# Altium footprint library PcbLib1.PcbLib: 36 footprints (part 1 of 3)
Each footprint in its own frame and in the unit in brackets; x right, y up, seen from the top. Pads: shape width x height; smd on the part's side, far side on the other; paste and mask are expansions set on the pad; w line width, h text height; cw(c..) or ccw(c..) is an arc to the next point about the centre after c.
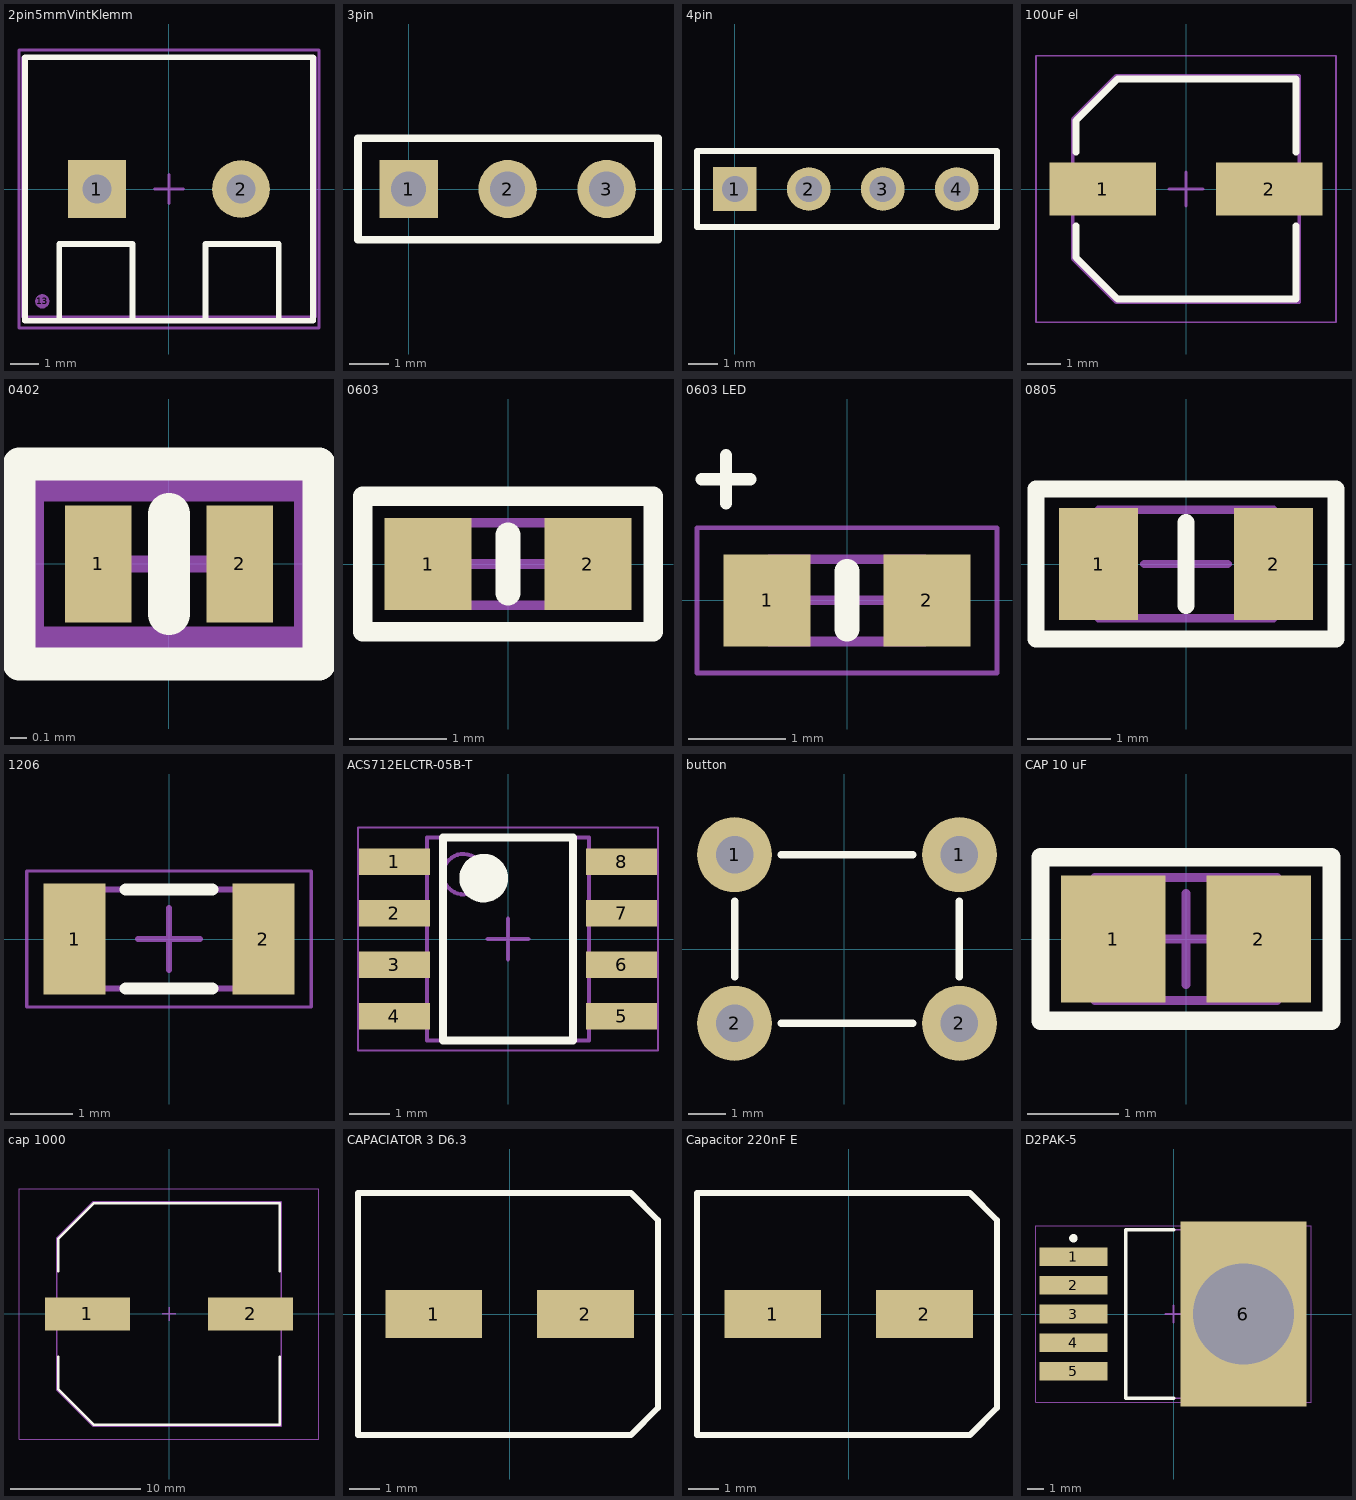
[diagram p0: the footprints below, top view; thin cyan lines are the x and y axes]

## 2pin5mmVintKlemm [mm]
pads (3):
  rect 2x2 hole 1: 1(-2.5,0)
  round 2 hole 1: 2(2.5,0)
  round 0.5 on Mech1: 13(-4.4,-3.9)
Top Overlay:
  lines w0.2: -3.81,-4.572 -3.81,-1.905 -1.27,-1.905 -1.27,-4.445 ; 1.27,-4.572 1.27,-1.905 3.81,-1.905 3.81,-4.445 ; -5,-4.572 5,-4.572 5,4.572 -5,4.572 -5,-4.572
Mechanical 1:
  lines w0.1: -5.08,-4.445 -5.08,4.555 5.08,4.555 5.08,-4.445 -5.08,-4.445
Mechanical 15:
  lines w0.1: -0.5,0 0.5,0 ; 0,-0.5 0,0.5 ; -5.207,-4.826 5.207,-4.826 5.207,4.826 -5.207,4.826 -5.207,-4.826
3D body "300-02.STEP": height 12.5, standoff -4, extent -5.08,-4.445 5.08,4.555

## 3pin [mm]
pads (3):
  rect 1.5x1.5 hole 0.9: 1(0,0)
  round 1.5 hole 0.9: 2(2.54,0) 3(5.08,0)
Top Overlay:
  lines w0.2: -1.3,-1.3 6.4,-1.3 6.4,1.3 -1.3,1.3 -1.3,-1.3
3D body "User Library-PLS-1.STEP": height 8.44, standoff -3, extent -1.27,-1.27 1.27,1.27
3D body "User Library-PLS-1.STEP": height 8.44, standoff -3, extent 1.27,-1.27 3.81,1.27
3D body "User Library-PLS-1.STEP": height 8.44, standoff -3, extent 3.81,-1.27 6.35,1.27

## 4pin [mm]
pads (4):
  rect 1.5x1.5 hole 0.9: 1(0,0)
  round 1.5 hole 0.9: 2(2.54,0) 3(5.08,0) 4(7.62,0)
Top Overlay:
  lines w0.2: -1.3,-1.3 -1.3,1.3 9,1.3 9,-1.3 -1.3,-1.3
3D body "User Library-PLS-1.STEP": height 8.44, standoff -3, extent 6.35,-1.27 8.89,1.27
3D body "User Library-PLS-1.STEP": height 8.44, standoff -3, extent 3.81,-1.27 6.35,1.27
3D body "User Library-PLS-1.STEP": height 8.44, standoff -3, extent 1.27,-1.27 3.81,1.27
3D body "User Library-PLS-1.STEP": height 8.44, standoff -3, extent -1.27,-1.27 1.27,1.27

## 100uF el [mm] "Aluminum Electrolytic Capacitor, Body 6,60x6,60x8,00mm, IPC Low Density"
height 8
pads (2):
  rect 3.2x1.6 smd: 1(-2.5,0) 2(2.5,0)
Top Overlay:
  lines w0.2: -3.3,-1.1 -3.3,-2.05 -2.05,-3.3 3.3,-3.3 3.3,-1.1 ; -3.3,1.1 -3.3,2.05 -2.05,3.3 3.3,3.3 3.3,1.1
Mechanical 13:
  lines w0.1: -3.4,-2.1 -3.4,2.1 -2.1,3.4 3.4,3.4 3.4,-3.4 -2.1,-3.4 -3.4,-2.1
Mechanical 15:
  lines w0.05: -4.5,-4 4.5,-4 4.5,4 -4.5,4 -4.5,-4
  lines w0.1: -0.5,0 0.5,0 ; 0,-0.5 0,0.5
3D body: height 8, standoff 0, extent -3.4,-3.4 3.4,3.4
3D body: height 2.67, standoff 0, extent -3.4,-3.4 3.4,3.4

## 0402 [mm]
pads (2):
  rect 0.4x0.7 smd: 1(-0.425,0) 2(0.425,0)
Top Overlay:
  lines w0.2: -0.9,-0.6 -0.9,0.6 0.9,0.6 0.9,-0.6 -0.9,-0.6
  lines w0.254: 0,-0.3 0,0.3
Mechanical 13:
  lines w0.1: -0.8,-0.425 0.8,-0.425 0.8,0.425 -0.8,0.425 -0.8,-0.425
Mechanical 15:
  lines w0.05: -0.875,-0.5 0.875,-0.5 0.875,0.5 -0.875,0.5 -0.875,-0.5
  lines w0.1: -0.425,0 0.425,0 ; 0,-0.425 0,0.425
3D body: height 0.3, standoff 0, extent 0.25,-0.25 0.5,0.25
3D body: height 0.3, standoff 0, extent -0.5,-0.25 -0.25,0.25
3D body: height 0.3, standoff 0, extent -0.25,-0.25 0.25,0.25

## 0603 [mm]
pads (2):
  rect 0.9x0.95 smd: 1(-0.825,0) 2(0.825,0)
Top Overlay:
  lines w0.2: -1.5,-0.7 -1.5,0.7 1.5,0.7 1.5,-0.7 -1.5,-0.7
  lines w0.254: 0,-0.3 0,0.3
Mechanical 13:
  lines w0.1: -0.8,-0.425 0.8,-0.425 0.8,0.425 -0.8,0.425 -0.8,-0.425
Mechanical 15:
  lines w0.05: -1.55,-0.75 1.55,-0.75 1.55,0.75 -1.55,0.75 -1.55,-0.75
  lines w0.1: -0.425,0 0.425,0 ; 0,-0.425 0,0.425
3D body: height 0.3, standoff 0, extent 0.35,-0.425 0.8,0.425
3D body: height 0.3, standoff 0, extent -0.8,-0.425 -0.35,0.425
3D body: height 0.3, standoff 0, extent -0.35,-0.425 0.35,0.425

## 0603 LED [mm]
pads (2):
  rect 0.9x0.95 smd: 1(-0.825,0) 2(0.825,0)
Top Overlay:
  lines w0.127: -1.5,1.25 -1,1.25 ; -1.25,1 -1.25,1.5
  lines w0.254: 0,-0.3 0,0.3
Mechanical 13:
  lines w0.1: -0.8,-0.425 -0.8,0.425 0.8,0.425 0.8,-0.425 -0.8,-0.425
Mechanical 15:
  lines w0.05: -1.55,-0.75 -1.55,0.75 1.55,0.75 1.55,-0.75 -1.55,-0.75
  lines w0.1: -0.425,0 0.425,0 ; 0,-0.425 0,0.425
3D body: height 0.3, standoff 0, extent -0.35,-0.425 0.35,0.425
3D body: height 0.3, standoff 0, extent -0.8,-0.425 -0.35,0.425
3D body: height 0.3, standoff 0, extent 0.35,-0.425 0.8,0.425

## 0805 [mm]
pads (2):
  rect 0.95x1.35 smd: 1(-1.05,0) 2(1.05,0)
Top Overlay:
  lines w0.2: 0,-0.5 0,0.5 ; -1.8,-0.9 1.8,-0.9 1.8,0.9 -1.8,0.9 -1.8,-0.9
Mechanical 13:
  lines w0.1: -1.05,-0.65 1.05,-0.65 1.05,0.65 -1.05,0.65 -1.05,-0.65
Mechanical 15:
  lines w0.05: -1.8,-0.95 1.8,-0.95 1.8,0.95 -1.8,0.95 -1.8,-0.95
  lines w0.1: -0.5,0 0.5,0 ; 0,-0.5 0,0.5
3D body: height 0.4, standoff 0, extent 0.55,-0.65 1.05,0.65
3D body: height 0.4, standoff 0, extent -1.05,-0.65 -0.55,0.65
3D body: height 0.4, standoff 0, extent -0.55,-0.65 0.55,0.65

## 1206 [mm]
pads (2):
  rect 1x1.8 smd: 1(-1.525,0) 2(1.525,0)
Top Overlay:
  lines w0.2: -0.7,-0.8 0.7,-0.8 ; -0.7,0.8 0.7,0.8
Mechanical 13:
  lines w0.1: -1.55,-0.8 -1.55,0.8 1.55,0.8 1.55,-0.8 -1.55,-0.8
Mechanical 15:
  lines w0.05: -2.3,-1.1 -2.3,1.1 2.3,1.1 2.3,-1.1 -2.3,-1.1
  lines w0.1: -0.5,0 0.5,0 ; 0,-0.5 0,0.5
3D body: height 0.5, standoff 0, extent -1,-0.8 1,0.8
3D body: height 0.5, standoff 0, extent -1.55,-0.8 -1,0.8
3D body: height 0.5, standoff 0, extent 1,-0.8 1.55,0.8

## ACS712ELCTR-05B-T [mm] "SOIC, 8-Leads, Body 4,90x3,90mm, Pitch 1,27mm, IPC Medium Density"
height 1.75
pads (8):
  rect 1.75x0.65 smd: 1(-2.8,1.905) 2(-2.8,0.635) 3(-2.8,-0.635) 4(-2.8,-1.905) 5(2.8,-1.905) 6(2.8,-0.635) 7(2.8,0.635) 8(2.8,1.905)
Top Overlay:
  circle w0.6: c-0.6,1.5 r0.3
  lines w0.2: -1.6,-2.5 -1.6,2.5 1.6,2.5 1.6,-2.5 -1.6,-2.5
Mechanical 13:
  circle w0.1: c-1.1,1.6 r0.5
  lines w0.1: -2,-2.5 -2,2.5 2,2.5 2,-2.5 -2,-2.5
Mechanical 15:
  lines w0.05: -3.7,-2.75 -3.7,2.75 3.7,2.75 3.7,-2.75 -3.7,-2.75
  lines w0.1: -0.5,0 0.5,0 ; 0,-0.5 0,0.5
3D body "User Library-SOIC-8-1.step": height 1.75, standoff 0, extent -3,-2.45 3,2.45

## button [mm]
pads (4):
  round 2 hole 1: 1(-2.925,2.525) 1(3.075,2.525) 2(-2.925,-1.975) 2(3.075,-1.975)
Top Overlay:
  lines w0.2: -2.925,-0.725 -2.925,1.275 ; -1.675,-1.975 1.825,-1.975 ; -1.675,2.525 1.825,2.525 ; 3.075,-0.725 3.075,1.275
3D body "User Library-KLS7-TS6601-7.STEP": height 7.04, standoff -3.46, extent -3.875,-2.75 4.026,3.25

## CAP 10 uF [mm] "Chip Capacitor, 2-Leads, Body 1,93x1,25mm, IPC Medium Density"
height 1.45
pads (2):
  rect 1.15x1.4 smd: 1(-0.8,0) 2(0.8,0)
Top Overlay:
  lines w0.2: -1.6,-0.9 1.6,-0.9 1.6,0.9 -1.6,0.9 -1.6,-0.9
Mechanical 13:
  lines w0.1: -1,-0.675 1,-0.675 1,0.675 -1,0.675 -1,-0.675
Mechanical 15:
  lines w0.05: -1.65,-0.95 1.65,-0.95 1.65,0.95 -1.65,0.95 -1.65,-0.95
  lines w0.1: -0.5,0 0.5,0 ; 0,-0.5 0,0.5
3D body: height 1.45, standoff 0, extent 0.5,-0.675 1,0.675
3D body: height 1.45, standoff 0, extent -1,-0.675 -0.5,0.675
3D body: height 1.45, standoff 0, extent -0.5,-0.675 0.5,0.675

## cap 1000 [mm] "Aluminum Electrolytic Capacitor, Body 17,00x17,00x17,00mm, IPC Low Density"
height 17
pads (2):
  rect 6.5x2.5 smd: 1(-6.25,0) 2(6.25,0)
Top Overlay:
  lines w0.2: -8.5,-3.3 -8.5,-5.75 -5.75,-8.5 8.5,-8.5 8.5,-3.3 ; -8.5,3.3 -8.5,5.75 -5.75,8.5 8.5,8.5 8.5,3.3
Mechanical 13:
  lines w0.1: -8.6,-5.8 -8.6,5.8 -5.8,8.6 8.6,8.6 8.6,-8.6 -5.8,-8.6 -8.6,-5.8
Mechanical 15:
  lines w0.05: -11.5,-9.6 11.5,-9.6 11.5,9.6 -11.5,9.6 -11.5,-9.6
  lines w0.1: -0.5,0 0.5,0 ; 0,-0.5 0,0.5
3D body: height 17, standoff 0, extent -8.25,-8.25 8.25,8.25
3D body: height 5.67, standoff 0, extent -8.6,-8.6 8.6,8.6

## CAPACIATOR 3 D6.3 [mm]
pads (2):
  rect 3.2x1.6 smd: 1(-2.5,0) 2(2.5,0)
Top Overlay:
  lines w0.2: -5,-4 -5,-0.8 -5,4 4,4 4.9,3.1 4.9,-3.1 4,-4 1.625,-4 -2.125,-4 -5,-4
3D body "User Library-A3D-003-00011.step": height 5.8, standoff 0, extent -3.65,-3.3 3.65,3.3

## Capacitor 220nF E [mm]
pads (2):
  rect 3.2x1.6 smd: 1(-2.5,0) 2(2.5,0)
Top Overlay:
  lines w0.2: -5,-4 -5,-0.2 -5,4 4,4 4.9,3.1 4.9,-3.1 4,-4 -5,-4
3D body "User Library-A3D-003-00012.step": height 7.7, standoff 0, extent -3.65,-3.3 3.65,3.3

## D2PAK-5 [mm]
pads (6):
  rect 4.05x1.1 smd: 1(-5.95,3.4) 2(-5.95,1.7) 3(-5.95,0) 4(-5.95,-1.7) 5(-5.95,-3.4)
  rect 7.5x11 hole 6: 6(4.15,0)
Top Overlay:
  circle w0.25: c-5.95,4.5 r0.125
  lines w0.2: 0,-5 -2.85,-5 -2.85,5 0,5
Mechanical 13:
  lines w0.1: -2.85,-5 -2.85,5 6.15,5 6.15,-5 -2.85,-5
Mechanical 15:
  lines w0.05: -8.175,-5.25 -8.175,5.25 8.175,5.25 8.175,-5.25 -8.175,-5.25
  lines w0.1: -0.5,0 0.5,0 ; 0,-0.5 0,0.5
3D body: height 5, standoff 0, extent -2.85,-5 6.15,5